# Altium schematic symbol library biblioteka_schematic.SchLib: 121 symbols
Pins are listed as number, name and electrical type; pins without a type are passive.

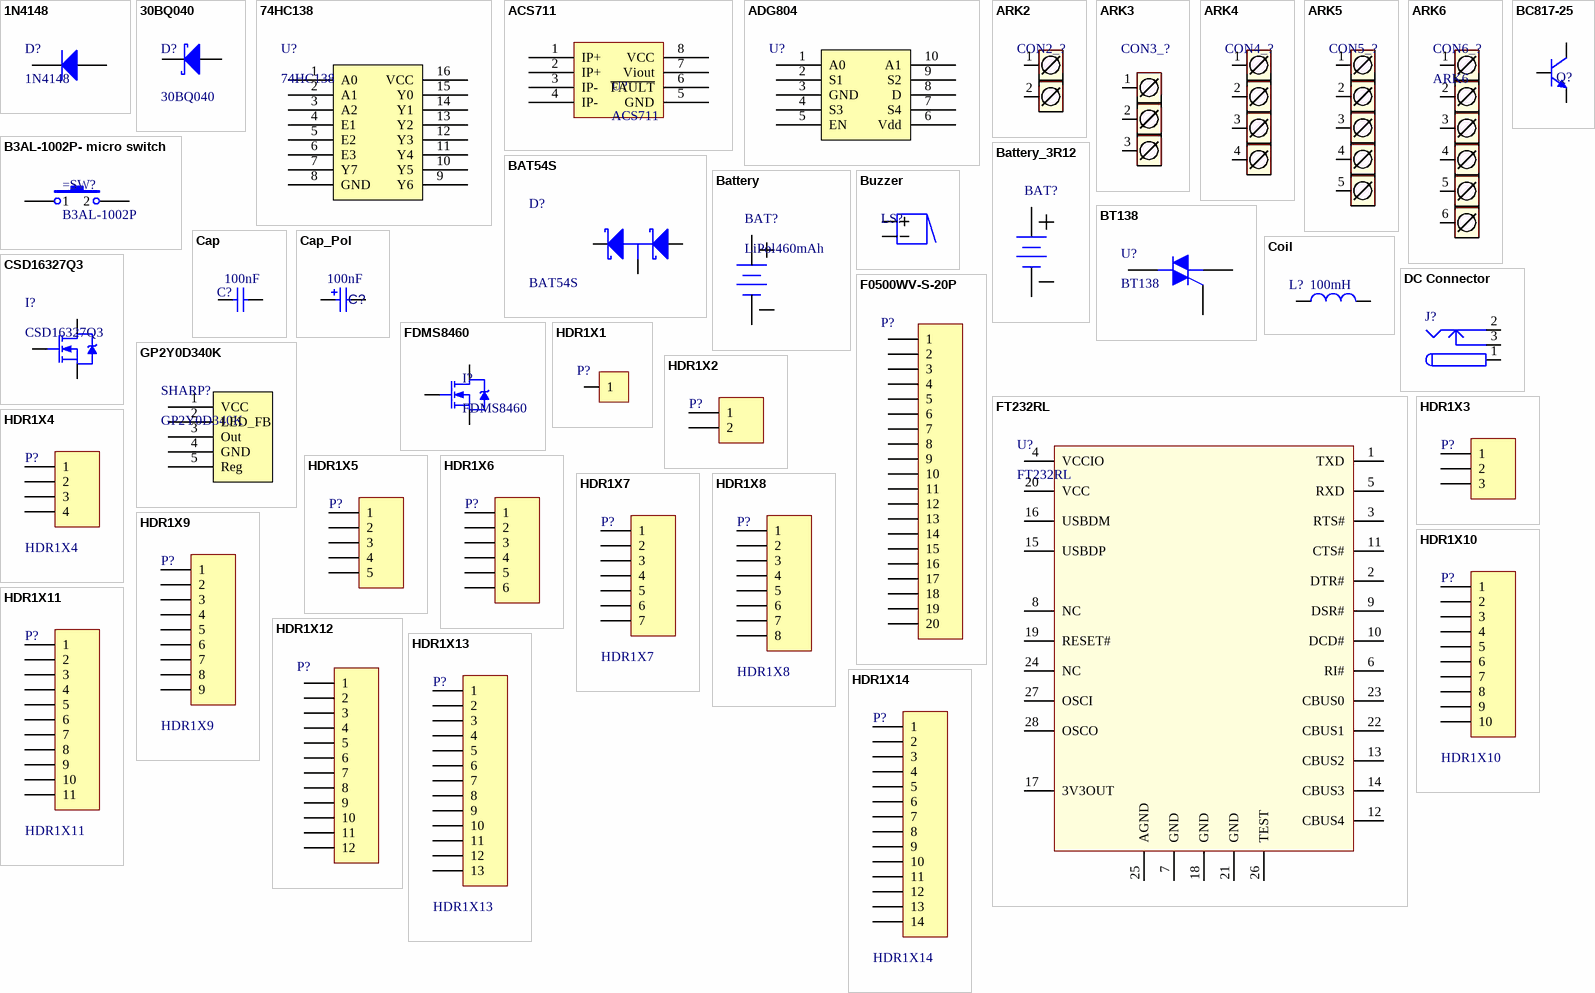
[diagram p0: symbols 1N4148 to HDR1X14]

## 1N4148
designator D?
High-speed diode
footprint 0805_DIODE
pins: 1 A, 2 K

## 30BQ040
designator D?
Schottky Rectifier; Published: 8-Jun-2000; LatestRevisionDate: 17-Jul-2002; LatestRevisionNote: Re-released for DXP Platform.; DatasheetDocument: PD-2.439; PackageReference: SMC; Publisher: Altium Limited; Code_JEDEC: DO-214-AB; ComponentLink1Description: Manufacturer Link; ComponentLink1URL: http://www.irf.com/; ComponentLink2Description: Datasheet; ComponentLink2URL: http://www.irf.com/product-info/datasheets/data/30bq040.pdf
footprint SMC (DO-214-AB/SMC; 2 C-Bend Leads; Body 7.9 x 5.9 mm, inc. leads (LxW))
pins: 1 A, 2 K

## 74HC138
designator U?
Demultiplexer 3 to 8
footprint SO16
pins: 1 A0, 2 A1, 3 A2, 4 E1, 5 E2, 6 E3, 7 Y7, 8 GND, 9 Y6, 10 Y5, 11 Y4, 12 Y3, 13 Y2, 14 Y1, 15 Y0, 16 VCC

## ACS711
designator U?
Current sensor. 12.5A or 25A at 3.3V
footprint SO-8_N
pins: 1 IP+, 2 IP+, 3 IP-, 4 IP-, 5 GND, 6 ~{FAULT}, 7 Viout, 8 VCC

## ADG804
designator U?  (value not drawn)
4Ch multiplexer
footprint MSOP RM-10
pins: 1 A0, 2 S1, 3 GND, 4 S3, 5 EN, 6 Vdd, 7 S4, 8 D, 9 S2, 10 A1

## ARK2
designator CON2_?  (value not drawn)
Złącze śrubowe 2 piny
footprint ARK2
footprint ARK 3.5 2-lines
footprint MC0000 - 2pin
pins: 1, 2

## ARK3
designator CON3_?  (value not drawn)
Złącze śrubowe 3 piny
footprint ARK3
pins: 1, 2, 3

## ARK4
designator CON4_?  (value not drawn)
Złącze śrubowe 4 piny
footprint ARK4
footprint ARK 3.5 4-lines
pins: 1, 2, 3, 4

## ARK5
designator CON5_?  (value not drawn)
Złącze śrubowe 5 pinów
footprint ARK5
pins: 1, 2, 3, 4, 5

## ARK6
designator CON6_?
Złącze śrubowe 6 pinów
footprint ARK6
pins: 1, 2, 3, 4, 5, 6

## B3AL-1002P- micro switch
designator =SW?, comment B3AL-1002P
footprint B3AL-1002P
pins: 1, 2

## BAT54S
designator D?
Schottky Barrier Double Diode; Published: 17-Sep-2003; LatestRevisionDate: 12-Dec-2006; LatestRevisionNote: IPC-7351 Footprint Added.; DatasheetVersion: 4-Mar-2002; PackageVersion: May-1999; PackageReference: SOT23; Publisher: Altium Limited; PackageDescription: 3-Pin SOT-23 Package 0.95 mm Pitch, 2.3 mm Lead Span; ComponentLink1Description: Manufacturer Link; ComponentLink1URL: http://www.semiconductors.philips.com/; ComponentLink2Description: Datasheet; ComponentLink2URL: http://www.semiconductors.philips.com/acrobat/datasheets/BAT54_SERIES_4.pdf
footprint SOT23_N
pins: 1 A, 2 K, 3 C

## Battery
designator BAT?, comment LiPol460mAh
footprint LiPol_460mAh

## Battery_3R12
designator BAT?, comment 3R12  (value not drawn)
3R12 Battery 4,5V with 2x2 Header
footprint Battery_3R12 (4,5V Battery model 3R12)
pins: 1 +, 2 -

## BC817-25
designator Q?  (value not drawn)
NPN General-purpose Transistor; Published: 17-Sep-2003; LatestRevisionDate: 12-Dec-2006; LatestRevisionNote: IPC-7351 Footprint Added.; DatasheetVersion: Jun-1999; PackageVersion: May-1999; PackageReference: SOT23; Publisher: Altium Limited; PackageDescription: 3-Pin SOT-23 Package 0.95 mm Pitch, 2.3 mm Lead Span; ComponentLink1Description: Manufacturer Link; ComponentLink1URL: http://www.semiconductors.philips.com/; ComponentLink2Description: Datasheet; ComponentLink2URL: http://www.semiconductors.philips.com/acrobat/datasheets/BC817_BC817W_BC337_5.pdf
footprint SOT23_N
pins: 1 B, 2 E, 3 C

## BT138
designator U?
BT138, 600V Triac
footprint TO-220AB (TO, Thru-Hole, Vertical, Heatsink Mounted; 3 In-Line Leads; Pitch 2.54 mm)
pins: 1 M1, 2 M2, 3 G

## Buzzer
designator LS?  (value not drawn)
Magnetic Transducer Buzzer; Published: 24-Mar-1999; LatestRevisionDate: 17-Dec-2003; LatestRevisionNote: Schematic revised, PCB Footprint replaced.; DatasheetVersion: 17-Dec-2003; PackageReference: ABSM-1574; Publisher: Altium Limited; ComponentLink1Description: Manufacturer Link; ComponentLink1URL: http://www.megastar.com/linecard/buzzmode/index.php
footprint HCM1212X (Buzzer)
pins: 1, 2

## Cap
designator C?  value 100nF
Ceramic capacitor; Unit Price1: *; Unit Price2: *
footprint 0805_CAP
footprint 0603_CAP
footprint 1210_CAP
pins: 1, 2

## Cap_Pol
designator C?, comment 100nF
Polar capacitor; Value: 100nF
footprint Con_SMD_4x5 (SMD electrolytic capacitor)
footprint Con_SMD_5x5.5 (SMD electrolytic capacitor)
footprint Con_SMD_6.3x5.5 (SMD electrolytical capacitor)
footprint Con_SMD_8x10_5 (Base 8,2mm height 10mm, 220uF, 35V AD6)
footprint Cap_THT_5x11
footprint Cap_THT_6x11
footprint Cap_THT_10x20
footprint EIA 7343-31
footprint Cap SMD Multipurpose (Created for multi footprint capacitors)
footprint CAP_THT_8x7
pins: 1, 2
2 alternate drawings of the same symbol

## Coil
designator L?, comment 100mH
Coil for ADC filtering; Value: 100mH
footprint 0805 ((2012 metric))
footprint 0603
footprint THT_AXIAL (General THT AXIAL element)
footprint 1206 (3216(metric))
pins: 1, 2

## CSD16327Q3
designator I?
N-Channel NexFET Power MOSFET
footprint Q3
pins: D DRAIN, G GATE, S SOURCE

## DC Connector
designator J?  (value not drawn)
Low Voltage Power Supply Connector
footprint DC Connector (www.lumberd.com Designator: 1613 18)
pins: 1 (power), 2 (power), 3 (power)

## F0500WV-S-20P
designator P?  (value not drawn)
footprint F0500WV-S-20P (Złącze FFC 20 pin)
pins: 1, 2, 3, 4, 5, 6, 7, 8, 9, 10, 11, 12, 13, 14, 15, 16, 17, 18, 19, 20

## FDMS8460
designator I?
N-Channel Power Trench® MOSFET  40V, 49A, 2.2m:
footprint Power 56
pins: D DRAIN, G GATE, S SOURCE

## FT232RL
designator U?
9.62500000000
footprint SSOP-28 (SOP, 28-Leads, Body 10,5x5,6mm (max), Pitch 0,65mm)
pins: 1 TXD, 2 DTR#, 3 RTS#, 4 VCCIO, 5 RXD, 6 RI#, 7 GND, 8 NC, 9 DSR#, 10 DCD#, 11 CTS#, 12 CBUS4, 13 CBUS2, 14 CBUS3, 15 USBDP, 16 USBDM, 17 3V3OUT, 18 GND, 19 RESET#, 20 VCC, 21 GND, 22 CBUS1, 23 CBUS0, 24 NC, 25 AGND, 26 TEST, 27 OSCI, 28 OSCO

## GP2Y0D340K
designator SHARP?
40cm proximity sensor
footprint GP2Y0D340K
pins: 1 VCC, 2 LED_FB, 3 Out, 4 GND, 5 Reg

## HDR1X1
designator P?  (value not drawn)
Header, 1-Pin
footprint HDR1X1 (Header, 1-Pin)
pins: 1

## HDR1X2
designator P?  (value not drawn)
Header, 2-Pin; LatestRevisionDate: 17-Jul-2002; LatestRevisionNote: Re-released for DXP Platform.; Publisher: Altium Limited
footprint HDR1X2 (Connector; Header; 2 Position)
footprint PicoBlade SMD Angle 2 Circuits
footprint PicoBlade SMD Horizontal 2 Circuits
footprint Molex SPOX Angle 2 Circuits
footprint Molex SPOX Horizontal 2 Circuits
footprint MOLEX KK HORIZONTAL 2PIN (Connector; Header; 2 Position)
pins: 1, 2

## HDR1X3
designator P?  (value not drawn)
Header, 3-Pin; LatestRevisionDate: 17-Jul-2002; LatestRevisionNote: Re-released for DXP Platform.; Publisher: Altium Limited
footprint HDR1X3 (Connector; Header; 3 Position)
footprint PicoBlade SMD Angle 3 Circuits
footprint PicoBlade SMD Horizontal 3 Circuits
footprint Molex SPOX Angle 3 Circuits
footprint Molex SPOX Horizontal 3 Circuits
footprint PicoBlade THTAngle 3 Circuits
footprint PicoBlade THT Horizontal 3 Circuits
footprint MOLEX KK HORIZONTAL 3PIN (Connector; Header; 3 Position)
pins: 1, 2, 3

## HDR1X4
designator P?
Header, 4-Pin; LatestRevisionDate: 17-Jul-2002; LatestRevisionNote: Re-released for DXP Platform.; Publisher: Altium Limited
footprint HDR1X4 (Connector; Header; 4 Position)
footprint PicoBlade SMD Angle 4 Circuits
footprint PicoBlade SMD Horizontal 4 Circuits
footprint PicoBlade THTHorizontal 4 Circuits
footprint PicoBlade THTAngle 4 Circuits
footprint Molex SPOX Angle 4 Circuits
footprint Molex SPOX Horizontal 4 Circuits
pins: 1, 2, 3, 4

## HDR1X5
designator P?  (value not drawn)
Header, 5-Pin; LatestRevisionDate: 17-Jul-2002; LatestRevisionNote: Re-released for DXP Platform.; Publisher: Altium Limited
footprint HDR1X5 (Connector; Header; 5 Position)
footprint Molex SPOX Angle 5 Circuits
footprint Molex SPOX Horizontal 5 Circuits
pins: 1, 2, 3, 4, 5

## HDR1X6
designator P?  (value not drawn)
Header, 6-Pin; LatestRevisionDate: 17-Jul-2002; LatestRevisionNote: Re-released for DXP Platform.; Publisher: Altium Limited
footprint HDR1X6 (Connector; Header; 6 Position)
footprint PicoBlade SMD Horizontal6 Circuits
footprint PicoBlade SMD Angle 6 Circuits
footprint PicoBlade THTHorizontal 6 Circuits
footprint PicoBlade THTAngle 6 Circuits
footprint Molex SPOX Angle 6 Circuits
footprint Molex SPOX Horizontal 6 Circuits
pins: 1, 2, 3, 4, 5, 6

## HDR1X7
designator P?
Header, 7-Pin; LatestRevisionDate: 17-Jul-2002; LatestRevisionNote: Re-released for DXP Platform.; Publisher: Altium Limited
footprint HDR1X7 (Connector; Header; 7 Position)
pins: 1, 2, 3, 4, 5, 6, 7

## HDR1X8
designator P?
Header, 8-Pin; LatestRevisionDate: 17-Jul-2002; LatestRevisionNote: Re-released for DXP Platform.; Publisher: Altium Limited
footprint HDR1X8 (Connector; Header; 8 Position)
footprint PicoBlade SMD Angle 8 Circuits
footprint PicoBlade SMD Horizontal8 Circuits
footprint PicoBlade THT Angle 8 Circuits
footprint PicoBlade THT Horizontal 8 Circuits
pins: 1, 2, 3, 4, 5, 6, 7, 8

## HDR1X9
designator P?
Header, 9-Pin; LatestRevisionDate: 17-Jul-2002; LatestRevisionNote: Re-released for DXP Platform.; Publisher: Altium Limited
footprint HDR1X9 (Connector; Header; 9 Position)
pins: 1, 2, 3, 4, 5, 6, 7, 8, 9

## HDR1X10
designator P?
Header, 10-Pin; LatestRevisionDate: 17-Jul-2002; LatestRevisionNote: Re-released for DXP Platform.; Publisher: Altium Limited
footprint HDR1X10 (Connector; Header; 10 Position)
footprint PicoBlade THT Angle 10 Circuits
footprint PicoBlade THT Horizontal 10 Circuits
pins: 1, 2, 3, 4, 5, 6, 7, 8, 9, 10

## HDR1X11
designator P?
Header, 11-Pin; LatestRevisionDate: 17-Jul-2002; LatestRevisionNote: Re-released for DXP Platform.; Publisher: Altium Limited
footprint HDR1X11 (Connector; Header; 11 Position)
pins: 1, 2, 3, 4, 5, 6, 7, 8, 9, 10, 11

## HDR1X12
designator P?  (value not drawn)
Header, 12-Pin
footprint HDR1X12 (Connector; Header; 12 Position)
pins: 1, 2, 3, 4, 5, 6, 7, 8, 9, 10, 11, 12

## HDR1X13
designator P?
Header, 13-Pin; LatestRevisionDate: 17-Jul-2002; LatestRevisionNote: Re-released for DXP Platform.; Publisher: Altium Limited
footprint HDR1X13 (Connector; Header; 13 Position)
pins: 1, 2, 3, 4, 5, 6, 7, 8, 9, 10, 11, 12, 13

## HDR1X14
designator P?
Header, 14-Pin; LatestRevisionDate: 17-Jul-2002; LatestRevisionNote: Re-released for DXP Platform.; Publisher: Altium Limited
footprint HDR1X14 (Connector; Header; 14 Position)
pins: 1, 2, 3, 4, 5, 6, 7, 8, 9, 10, 11, 12, 13, 14

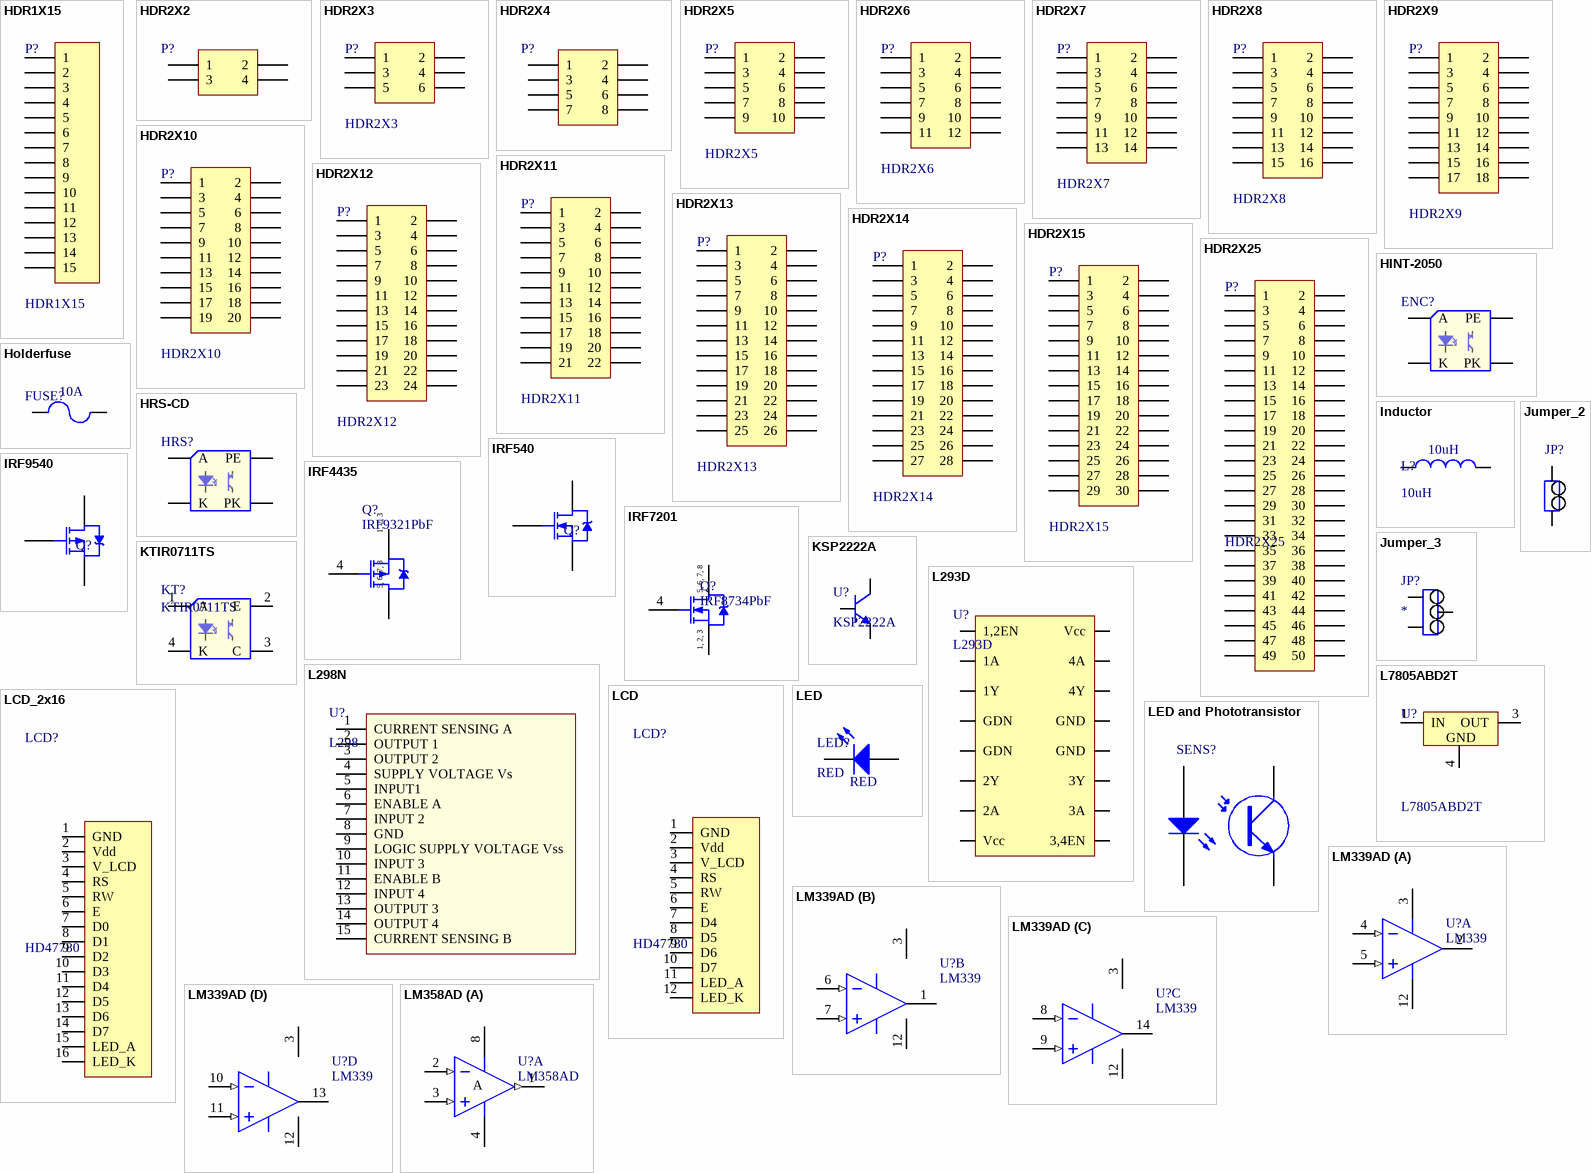
[diagram p1: symbols HDR1X15 to LM358AD]

## HDR1X15
designator P?
Header, 15-Pin; LatestRevisionDate: 17-Jul-2002; LatestRevisionNote: Re-released for DXP Platform.; Publisher: Altium Limited
footprint HDR1X15 (Connector; Header; 15 Position)
pins: 1, 2, 3, 4, 5, 6, 7, 8, 9, 10, 11, 12, 13, 14, 15

## HDR2X2
designator P?  (value not drawn)
Header, 2-Pin, Dual row
footprint HDR2X2 (Connector; Header; 2X2 Position)
pins: 1, 2, 3, 4

## HDR2X3
designator P?
Header, 3-Pin, Dual row; LatestRevisionDate: 17-Jul-2002; LatestRevisionNote: Re-released for DXP Platform.; Publisher: Altium Limited
footprint HDR2X3 (Connector; Header; 3x2 Position)
pins: 1, 2, 3, 4, 5, 6

## HDR2X4
designator P?  (value not drawn)
Header, 4-Pin, Dual Row
footprint HDR2X4 (Connector; Header; 2X4 Position)
pins: 1, 2, 3, 4, 5, 6, 7, 8

## HDR2X5
designator P?
Header, 5-Pin, Dual row; LatestRevisionDate: 17-Jul-2002; LatestRevisionNote: Re-released for DXP Platform.; Publisher: Altium Limited
footprint HDR2X5 (Connector; Header; 5x2 Position)
pins: 1, 2, 3, 4, 5, 6, 7, 8, 9, 10

## HDR2X6
designator P?
Header, 6-Pin, Dual row; LatestRevisionDate: 17-Jul-2002; LatestRevisionNote: Re-released for DXP Platform.; Publisher: Altium Limited
footprint HDR2X6 (Connector; Header; 6x2 Position)
pins: 1, 2, 3, 4, 5, 6, 7, 8, 9, 10, 11, 12

## HDR2X7
designator P?
Header, 7-Pin, Dual row; LatestRevisionDate: 17-Jul-2002; LatestRevisionNote: Re-released for DXP Platform.; Publisher: Altium Limited
footprint HDR2X7 (Connector; Header; 7x2 Position)
pins: 1, 2, 3, 4, 5, 6, 7, 8, 9, 10, 11, 12, 13, 14

## HDR2X8
designator P?
Header, 8-Pin, Dual row; LatestRevisionDate: 17-Jul-2002; LatestRevisionNote: Re-released for DXP Platform.; Publisher: Altium Limited
footprint HDR2X8 (Connector; Header; 8x2 Position)
pins: 1, 2, 3, 4, 5, 6, 7, 8, 9, 10, 11, 12, 13, 14, 15, 16

## HDR2X9
designator P?
Header, 9-Pin, Dual row; LatestRevisionDate: 17-Jul-2002; LatestRevisionNote: Re-released for DXP Platform.; Publisher: Altium Limited
footprint HDR2X9 (Connector; Header; 9x2 Position)
pins: 1, 2, 3, 4, 5, 6, 7, 8, 9, 10, 11, 12, 13, 14, 15, 16, 17, 18

## HDR2X10
designator P?
Header, 10-Pin, Dual row; LatestRevisionDate: 17-Jul-2002; LatestRevisionNote: Re-released for DXP Platform.; Publisher: Altium Limited
footprint HDR2X10 (Connector; Header; 10x2 Position)
pins: 1, 2, 3, 4, 5, 6, 7, 8, 9, 10, 11, 12, 13, 14, 15, 16, 17, 18, 19, 20

## HDR2X11
designator P?
Header, 11-Pin, Dual row; LatestRevisionDate: 17-Jul-2002; LatestRevisionNote: Re-released for DXP Platform.; Publisher: Altium Limited
footprint HDR2X11 (Connector; Header; 11x2 Position)
pins: 1, 2, 3, 4, 5, 6, 7, 8, 9, 10, 11, 12, 13, 14, 15, 16, 17, 18, 19, 20, 21, 22

## HDR2X12
designator P?
Header, 12-Pin, Dual row; LatestRevisionDate: 17-Jul-2002; LatestRevisionNote: Re-released for DXP Platform.; Publisher: Altium Limited
footprint HDR2X12 (Connector; Header; 12x2 Position)
pins: 1, 2, 3, 4, 5, 6, 7, 8, 9, 10, 11, 12, 13, 14, 15, 16, 17, 18, 19, 20, 21, 22, 23, 24

## HDR2X13
designator P?
Header, 13-Pin, Dual row; LatestRevisionDate: 17-Jul-2002; LatestRevisionNote: Re-released for DXP Platform.; Publisher: Altium Limited
footprint HDR2X13 (Connector; Header; 13x2 Position)
pins: 1, 2, 3, 4, 5, 6, 7, 8, 9, 10, 11, 12, 13, 14, 15, 16, 17, 18, 19, 20, 21, 22, 23, 24, 25, 26

## HDR2X14
designator P?
Header, 14-Pin, Dual row; LatestRevisionDate: 17-Jul-2002; LatestRevisionNote: Re-released for DXP Platform.; Publisher: Altium Limited
footprint HDR2X14 (Connector; Header; 14x2 Position)
pins: 1, 2, 3, 4, 5, 6, 7, 8, 9, 10, 11, 12, 13, 14, 15, 16, 17, 18, 19, 20, 21, 22, 23, 24, 25, 26, 27, 28

## HDR2X15
designator P?
Header, 15-Pin, Dual row; LatestRevisionDate: 17-Jul-2002; LatestRevisionNote: Re-released for DXP Platform.; Publisher: Altium Limited
footprint HDR2X15 (Connector; Header; 15x2 Position)
pins: 1, 2, 3, 4, 5, 6, 7, 8, 9, 10, 11, 12, 13, 14, 15, 16, 17, 18, 19, 20, 21, 22, 23, 24, 25, 26, 27, 28, 29, 30

## HDR2X25
designator P?
Header, 25-Pin, Dual row; LatestRevisionDate: 17-Jul-2002; LatestRevisionNote: Re-released for DXP Platform.; Publisher: Altium Limited
footprint HDR2X25 (Connector; Header; 25x2 Position)
pins: 1, 2, 3, 4, 5, 6, 7, 8, 9, 10, 11, 12, 13, 14, 15, 16, 17, 18, 19, 20, 21, 22, 23, 24, 25, 26, 27, 28, 29, 30, 31, 32, 33, 34, 35, 36, 37, 38, 39, 40, 41, 42, 43, 44, 45, 46, 47, 48, 49, 50

## HINT-2050
designator ENC?  (value not drawn)
Digital encoder
footprint HINT-2050
footprint HINT-2050 - half size
pins: 1 K "Cathode", 2 A "Anode", 3 PK "Collector", 4 PE "Emiter"

## Holderfuse
designator FUSE?, comment 10A
Fuseholder Open Design, 5 x 20 mm; Value: 10A
footprint Holderfuse (8x20mm fuse holder)
pins: 1, 2

## HRS-CD
designator HRS?  (value not drawn)
HRS CD Encoder
footprint HRS CD (Sensor for encoder)
pins: 1 A "Anode", 2 PE "Emiter", 3 PK "Collector", 4 K "Cathode"

## Inductor
designator L?, comment 10uH
DO5040H-103; Code_IEC: 1005; Published: 8-Jun-2000; LatestRevisionDate: 29-May-2009; LatestRevisionNote: IPC-7351 Footprint Added.; PackageReference: 0402-A; Publisher: Altium Limited; PackageDescription: Chip Inductor; Code_JEITA: 0402; Value: 10uH
footprint DO5040
footprint Coilcraft (Multipurpose footprint for Coilcraft inductors)
footprint LPS4018
pins: 1, 2

## IRF540
designator Q?
HEXFET N-Channel Power MOSFET; Note: Pin 2 is electrically connected to pin 4.; Published: 8-Jun-2000; LatestRevisionDate: 17-Jul-2002; LatestRevisionNote: Re-released for DXP Platform.; DatasheetVersion: PD-9.373H; PackageVersion: Feb-1997; PackageReference: TO-220AB; Publisher: Altium Limited; PackageDescription: TO, Thru-Hole, Vertical, Heatsink Mounted; 3 In-Line Leads; Pitch 2.54 mm; ComponentLink1Description: Manufacturer Link; ComponentLink1URL: http://www.irf.com/
footprint TO-220AB (TO, Thru-Hole, Vertical, Heatsink Mounted; 3 In-Line Leads; Pitch 2.54 mm)
pins: 1 G, 2 D, 3 S

## IRF4435
designator Q?, comment IRF9321PbF
HEXFET Power MOSFET; Published: 17-Sep-2003; LatestRevisionDate: 13-Apr-2006; LatestRevisionNote: IPC-7351 Footprint Added.; DatasheetVersion: 12-Jun-2001; PackageVersion: Feb-2001; PackageReference: SO-8; Publisher: Altium Limited; PackageDescription: 8-Pin Plastic Small Outline Integrated Circuit 1.27 mm Pitch; Code_JEDEC: MS-012-AA; Code_IPC: SOIC127P600-8; ComponentLink1Description: Manufacturer Link; ComponentLink1URL: http://www.irf.com/; ComponentLink2Description: Datasheet; ComponentLink2URL: http://www.irf.com/product-info/datasheets/data/IRF4435.pdf
footprint SO-8_N
pins: 1 S, 2 S, 3 S, 4 G, 5 D, 6 D, 7 D, 8 D
text: 1, 2, 3; 5, 6, 7, 8

## IRF7201
designator Q?, comment IRF8734PbF
HEXFET Power MOSFET; Published: 8-Jun-2000; LatestRevisionDate: 13-Apr-2006; LatestRevisionNote: IPC-7351 Footprint Added.; DatasheetVersion: Sep-1998; PackageVersion: Feb-2001; PackageReference: SO-8; Publisher: Altium Limited; PackageDescription: 8-Pin Plastic Small Outline Integrated Circuit 1.27 mm Pitch; Code_JEDEC: MS-012-AA; Code_IPC: SOIC127P600-8; ComponentLink1Description: Manufacturer Link; ComponentLink1URL: http://www.irf.com/; ComponentLink2Description: Datasheet; ComponentLink2URL: http://www.irf.com/product-info/datasheets/data/irf7201.pdf
footprint SO-8_N
pins: 1 S, 2 S, 3 S, 4 G, 5 D, 6 D, 7 D, 8 D
text: 5, 6, 7, 8; 1, 2, 3

## IRF9540
designator Q?
HEXFET P-Channel Power MOSFET; Note: Pin 2 is electrically connected to pin 4.; Published: 8-Jun-2000; LatestRevisionDate: 17-Jul-2002; LatestRevisionNote: Re-released for DXP Platform.; DatasheetVersion: PD-9.421C; PackageVersion: Feb-1997; PackageReference: TO-220AB; Publisher: Altium Limited; PackageDescription: TO, Thru-Hole, Vertical, Heatsink Mounted; 3 In-Line Leads; Pitch 2.54 mm; ComponentLink1Description: Manufacturer Link; ComponentLink1URL: http://www.irf.com/; ComponentLink2Description: Datasheet; ComponentLink2URL: http://www.irf.com/product-info/datasheets/data/irf9540.pdf
footprint TO-220AB (TO, Thru-Hole, Vertical, Heatsink Mounted; 3 In-Line Leads; Pitch 2.54 mm)
pins: 1 G, 2 D, 3 S

## Jumper_2
designator JP?, comment Jumper  (value not drawn)
Jumper, 2-Pin
footprint HDR1X2 (Connector; Header; 2 Position)
pins: 1, 2

## Jumper_3
designator JP?
Jumper, 3-Pin
footprint HDR1X3 (Connector; Header; 3 Position)
pins: 1, 2, 3

## KSP2222A
designator U?
NPN General Purpose Amplifier
footprint TO-92
pins: 1 E, 2 B, 3 C

## KTIR0711TS
designator KT?
footprint KTIR0711S
pins: 1 A "Anode", 2 E "Emiter", 3 C "Collector", 4 K "Cathode"

## L293D
designator U?
Push-Pull Four Channel Driver With Diode
footprint DIP16
pins: 1 1,2EN, 2 1A, 3 1Y, 4 GDN, 5 GDN, 6 2Y, 7 2A, 8 Vcc, 9 3,4EN, 10 3A, 11 3Y, 12 GND, 13 GND, 14 4Y, 15 4A, 16 Vcc

## L298N
designator U?, comment L298
DUAL FULL-BRIDGE DRIVER
footprint Multiwatt15 (Miltiwatt15, 15-leads package)
pins: 1 CURRENT SENSING A, 2 OUTPUT 1, 3 OUTPUT 2, 4 SUPPLY VOLTAGE Vs, 5 INPUT1, 6 ENABLE A, 7 INPUT 2, 8 GND, 9 LOGIC SUPPLY VOLTAGE Vss, 10 INPUT 3, 11 ENABLE B, 12 INPUT 4, 13 OUTPUT 3, 14 OUTPUT 4, 15 CURRENT SENSING B

## L7805ABD2T
designator U?
Precision 1A Regulator; Published: 24-Aug-2001; LatestRevisionDate: 17-Jul-2002; LatestRevisionNote: Re-released for DXP Platform.; DatasheetVersion: Nov-1999; PackageReference: TO-263; Publisher: Altium Limited; PackageDescription: D2-PAK/TO-263-AB; 3 Leads (1 Cropped); Body 15.9 (inc. leads) x 10.4 mm (LxW max); ComponentLink1Description: Manufacturer Link; ComponentLink1URL: http://www.st.com/; ComponentLink2Description: Datasheet; ComponentLink2URL: http://www.st.com/stonline/products/literature/ds/2144/l7805ab.pdf
footprint TO-263 (D2-PAK/TO-263-AB; 3 Leads (1 Cropped); Body 15.9 (inc. leads) x 10.4 mm (LxW max))
footprint TO-220AB_stabilizer (TO, Thru-Hole, Vertical, Heatsink Mounted; 3 In-Line Leads; Pitch 2.54 mm)
pins: 1 IN (power), 3 OUT (power), 4 GND (power)

## LCD
designator LCD?, comment HD47780
Header for HD47780
footprint HDR1X12 (Connector; Header; 12 Position)
pins: 1 GND, 2 Vdd, 3 V_LCD, 4 RS, 5 RW, 6 E, 7 D4, 8 D5, 9 D6, 10 D7, 11 LED_A, 12 LED_K

## LCD_2x16
designator LCD?, comment HD47780
Header for HD47780
footprint LCD 2x16
pins: 1 GND, 2 Vdd, 3 V_LCD, 4 RS, 5 RW, 6 E, 7 D0, 8 D1, 9 D2, 10 D3, 11 D4, 12 D5, 13 D6, 14 D7, 15 LED_A, 16 LED_K

## LED
designator LED?, comment RED
Light-emitting diode; COLOR: RED
footprint 0805_DIODE
footprint LED_THT_RED
footprint LED_THT_BLUE
footprint LED_THT_GREEN
footprint LED_THT_YELLOW
footprint LED_THT_3mm
footprint 0603
pins: 1 A, 2 K

## LED and Phototransistor
designator SENS?, comment Opto_Pair  (value not drawn)
LED and Phototransistor
footprint LED and Phototransistor
pins: 1 FA, 2 FK, 3 PK, 4 PE

## LM339AD
designator U?, comment LM339
Quad Single-Supply Comparator; Published: 17-Jul-2002; LatestRevisionDate: 13-Apr-2006; LatestRevisionNote: IPC-7351 Footprint Added.; DatasheetVersion: 1988; PackageVersion: 1991; PackageReference: 751A-02; Publisher: Altium Limited; PackageDescription: 14-Pin Small Outline Integrated Circuit 1.27 mm Pitch; Code_IPC: SOIC127P600-14; ComponentLink1Description: Manufacturer Link; ComponentLink1URL: http://www.onsemi.com/site/products/taxonomy/0,4438,133,00.html
footprint SOIC14 (SOIC, 14-Leads, Body 8.6x3.9mm, Pitch 1.27mm, IPC Medium Density)
pins on every part: 3 V+ (power), 12 GND (power)
part A pins: 2 OUT (oc), 4 IN- (in), 5 IN+ (in)
part B pins: 1 OUT (oc), 6 IN- (in), 7 IN+ (in)
part C pins: 8 IN- (in), 9 IN+ (in), 14 OUT (oc)
part D pins: 10 IN- (in), 11 IN+ (in), 13 OUT (oc)

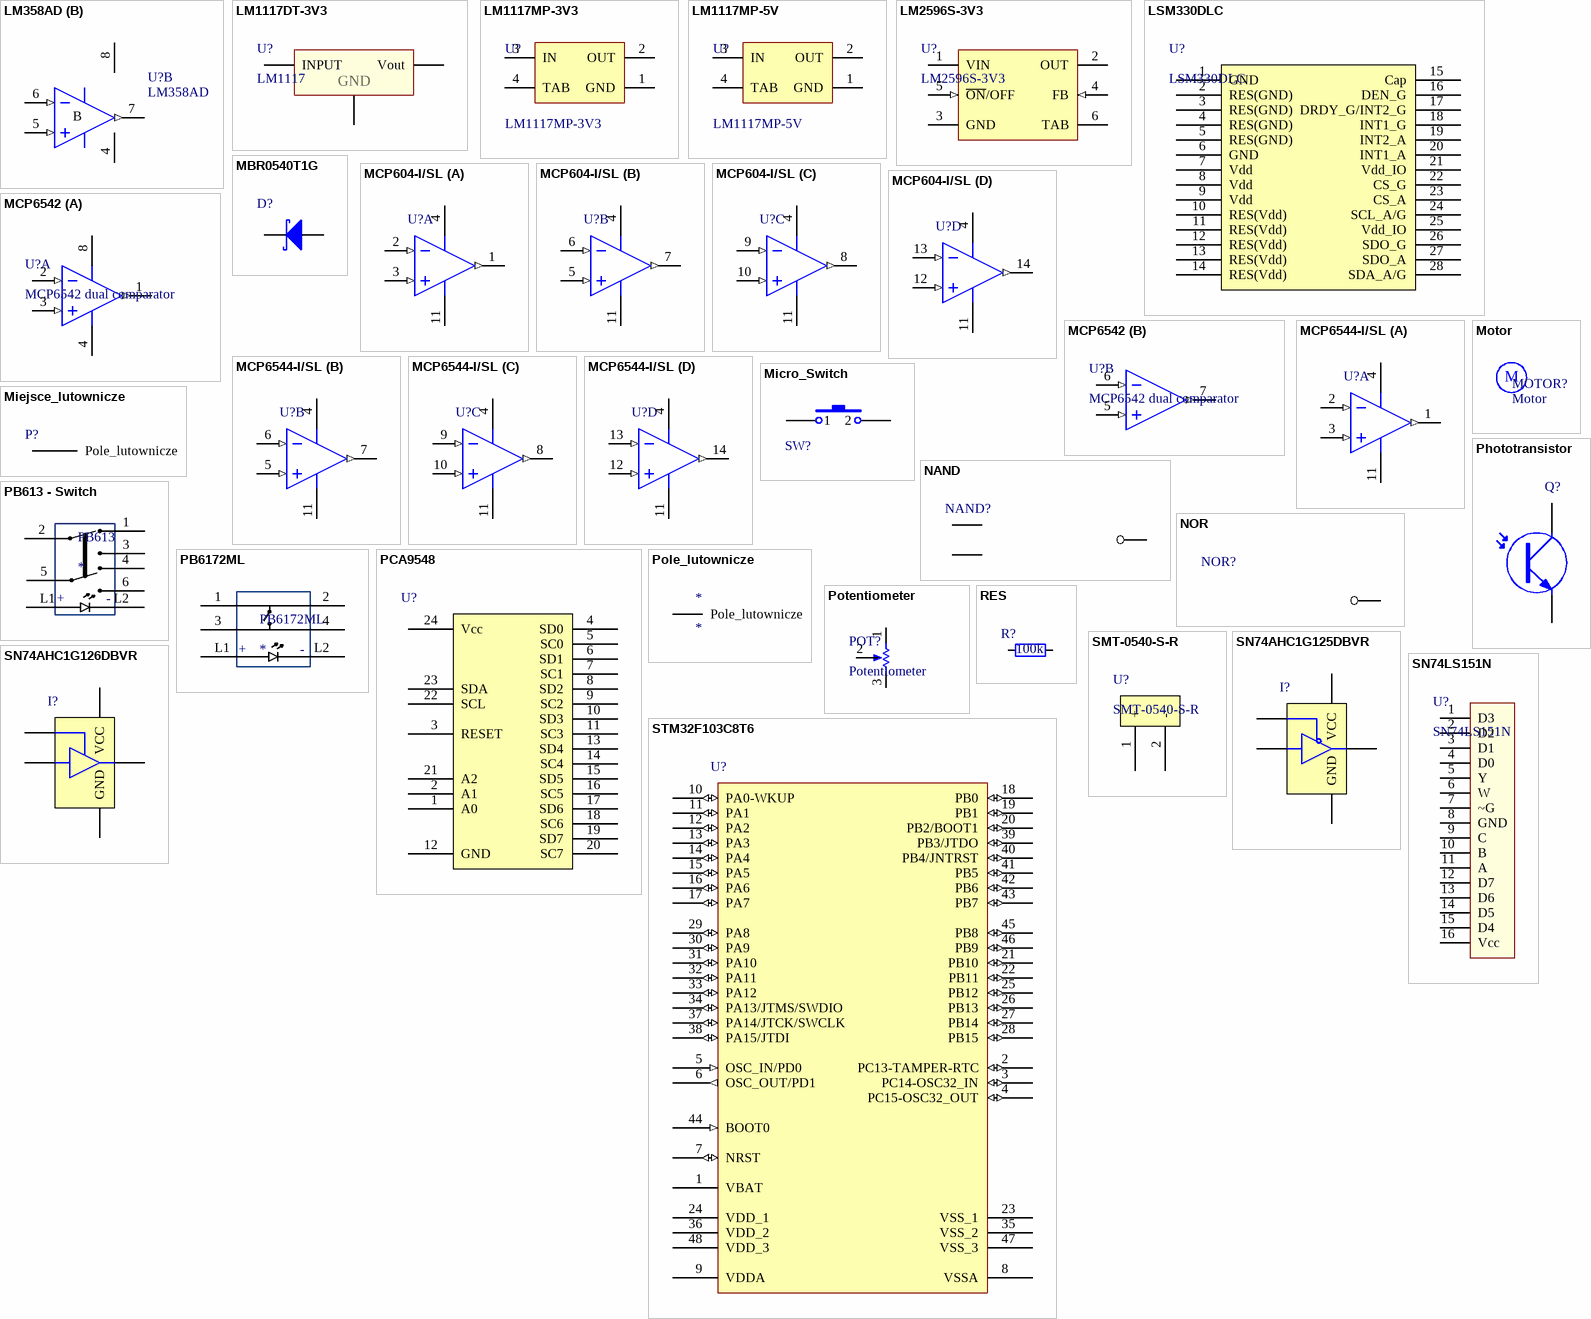
[diagram p2: symbols LM358AD to STM32F103C8T6]

## LM358AD
designator U?
Low-Power Dual Operational Amplifier; Published: 24-Aug-2001; LatestRevisionDate: 13-Apr-2006; LatestRevisionNote: IPC-7351 Footprint Added.; DatasheetVersion: Jun-1998; PackageVersion: Dec-2002; PackageReference: SO8; Publisher: Altium Limited; PackageDescription: 8-Pin Small Outline Integrated Circuit 1.27 mm Pitch; Code_JEDEC: MS-012-AA; Code_IPC: SOIC127P600-8; ComponentLink1Description: Manufacturer Link; ComponentLink1URL: http://www.st.com/; ComponentLink2Description: Datasheet; ComponentLink2URL: http://www.st.com/stonline/products/literature/ds/2163/lm358.pdf
footprint DIP8
footprint SO-8_N
pins on every part: 4 V- (power), 8 V+ (power)
part A pins: 1 OUT (out), 2 IN- (in), 3 IN+ (in)
part B pins: 5 IN+ (in), 6 IN- (in), 7 OUT (out)
part A text: A
part B text: B

## LM1117DT-3V3
designator U?, comment LM1117
LM1117, 3V3, 800mA LDI
footprint TO252 (D-PAK, 3-Pads, Body 5,8x6,7mm (max), IPC Low Density)
pins: 1 GND, 3 INPUT, 4 Vout

## LM1117MP-3V3
designator U?
800mA Low-Dropout Linear Regulator; PartNumber: LM1117MP-3.3; Manufacturer: National Semiconductor; CompType: LDO IC; PackageTopMarking: XYTT*N05A; PowerWise: N; Published: 4-Dec-2008; DatasheetVersion: Apr-2006; PackageVersion: revB, Apr-2003; PackageReference: MP04A; Publisher: Altium Limited; PackageDescription: Molded SOT-223, 6.50 x 3.56 x 1.6mm Body, 4 Lead, 2.3mm Pitch; RoHS: O; PinCount: 4; DigiKeyPartNumber: LM1117MP-3.3CT-ND; Code_JEDEC: TO-261-AA; Code_IPC: SOT223-4; ComponentLink1Description: LM1117 Datasheet; ComponentLink1URL: http://www.national.com/ds/LM/LM1117.pdf; ComponentLink2Description: LM1117 Web Page; ComponentLink2URL: http://www.national.com/pf/LM/LM1117.html; ComponentLink3Description: MP04A Package Page; ComponentLink3URL: http://www.national.com/packaging/folders/mp04a.html
footprint SOT223
pins: 1 GND (power), 2 OUT (power), 3 IN (power), 4 TAB (power)

## LM1117MP-5V
designator U?
800mA Low-Dropout Linear Regulator; PartNumber: LM1117MP-3.3; Manufacturer: National Semiconductor; CompType: LDO IC; PackageTopMarking: XYTT*N05A; PowerWise: N; Published: 4-Dec-2008; DatasheetVersion: Apr-2006; PackageVersion: revB, Apr-2003; PackageReference: MP04A; Publisher: Altium Limited; PackageDescription: Molded SOT-223, 6.50 x 3.56 x 1.6mm Body, 4 Lead, 2.3mm Pitch; RoHS: O; PinCount: 4; DigiKeyPartNumber: LM1117MP-5.0CT-ND; Code_JEDEC: TO-261-AA; Code_IPC: SOT223-4; ComponentLink1Description: LM1117 Datasheet; ComponentLink1URL: http://www.national.com/ds/LM/LM1117.pdf; ComponentLink2Description: LM1117 Web Page; ComponentLink2URL: http://www.national.com/pf/LM/LM1117.html; ComponentLink3Description: MP04A Package Page; ComponentLink3URL: http://www.national.com/packaging/folders/mp04a.html
footprint SOT223
pins: 1 GND (power), 2 OUT (power), 3 IN (power), 4 TAB (power)

## LM2596S-3V3
designator U?
SIMPLE SWITCHER Power Converter 150 KHz 3A Step-Down Voltage Regulator; PartNumber: LM2596S-3.3; Manufacturer: National Semiconductor; PackageTopMarking: NSUZXYTT*LM2596S*-3.3 P+; PowerWise: N; FirstPublished: 4-Dec-2008; DatasheetVersion: May-2002; PackageVersion: revD, Apr-2005; PackageReference: TS5B; Publisher: Altium Limited; PackageDescription: TO-263, Molded, .400 x .390 x .180in, 5 Lead, .067in Pitch, Surface Mount; CompType: Switcher; RoHS: O; PinCount: 5; DigiKeyPartNumber: LM2596S-3.3-ND; Code_JEDEC: MO-169-AB; ComponentLink1Description: LM2596 Datasheet; ComponentLink1URL: http://www.national.com/ds/LM/LM2596.pdf; ComponentLink2Description: LM2596 Web Page; ComponentLink2URL: http://www.national.com/pf/LM/LM2596.html; ComponentLink3Description: TS5B Package Page; ComponentLink3URL: http://www.national.com/packaging/folders/ts5b.html
footprint TS5B_N (D2-PAK, 6-Leads, Body 8.6x10.2mm, Pitch 1.7mm, Lead Span 14.1mm, IPC Medium Density)
pins: 1 VIN (power), 2 OUT (power), 3 GND (power), 4 FB (in), 5 ~{ON}/OFF (in), 6 TAB (power)

## LSM330DLC
designator U?
3D Axis Gyro and Accel
footprint LGA28
pins: 1 GND, 2 RES(GND), 3 RES(GND), 4 RES(GND), 5 RES(GND), 6 GND, 7 Vdd, 8 Vdd, 9 Vdd, 10 RES(Vdd), 11 RES(Vdd), 12 RES(Vdd), 13 RES(Vdd), 14 RES(Vdd), 15 Cap, 16 DEN_G, 17 DRDY_G/INT2_G, 18 INT1_G, 19 INT2_A, 20 INT1_A, 21 Vdd_IO, 22 CS_G, 23 CS_A, 24 SCL_A/G, 25 Vdd_IO, 26 SDO_G, 27 SDO_A, 28 SDA_A/G

## MBR0540T1G
designator D?, comment Schottky Power Rectifier  (value not drawn)
footprint SOD-123
pins: A, K

## MCP604-I/SL
designator U?
2.7V to 6.0V Single Supply CMOS Op Amp
footprint SOIC14 (SOIC, 14-Leads, Body 8.6x3.9mm, Pitch 1.27mm, IPC Medium Density)
footprint SSOP14
pins on every part: 4 VDD (power), 11 VSS (power)
part A pins: 1 OUTA (out), 2 VINA- (in), 3 VINA+ (in)
part B pins: 5 VINB+ (in), 6 VINB- (in), 7 OUTB (out)
part C pins: 8 OUTC (out), 9 VINC- (in), 10 VINC+ (in)
part D pins: 12 VIND+ (in), 13 VIND- (in), 14 OUTD (out)

## MCP6542
designator U?, comment MCP6542 dual comparator
Push-Pull Output Sub-Microamp Comparators
footprint SO-8_N
part A pins: 1 OUTA (out), 2 VINA- (in), 3 VINA+ (in), 4 VSS (power), 8 VDD (power)
part B pins: 5 VINA+ (in), 6 VINA- (in), 7 OUTA (out)

## MCP6544-I/SL
designator U?
Push-Pull Output Sub-Microamp Comparator, 14-Pin SOIC, Industrial Temperature; FirstPublished: 29-Jan-2009; DatasheetVersion: revF, Sep-2007; PackageVersion: revBB, Aug-2009; PackageReference: SOIC-SL14; Publisher: Altium Limited; PackageDescription: 14-Lead Plastic Small Outline (SL) - Narrow, 3.90mm Body [SOIC]; Supplier 1: Digi-Key; Supplier Part Number 1: MCP6544-I/SL-ND; Supplier 2: Newark; Supplier Part Number 2: 92C4258; Code_JEDEC: MS-012-AB; Code_IPC: SOIC127P600-14; ComponentLink1Description: Datasheet; ComponentLink1URL: http://ww1.microchip.com/downloads/en/DeviceDoc/21696f.pdf; ComponentLink2Description: Packaging Specification; ComponentLink2URL: http://www.microchip.com/stellent/groups/techpub_sg/documents/packagingspec/en012702.pdf; ComponentLink3Description: Microchip.com Home; ComponentLink3URL: http://www.microchip.com/
footprint SOIC14 (SOIC, 14-Leads, Body 8.6x3.9mm, Pitch 1.27mm, IPC Medium Density)
pins on every part: 4 VDD (power), 11 VSS (power)
part A pins: 1 OUTA (out), 2 VINA- (in), 3 VINA+ (in)
part B pins: 5 VINB+ (in), 6 VINB- (in), 7 OUTB (out)
part C pins: 8 OUTC (out), 9 VINC- (in), 10 VINC+ (in)
part D pins: 12 VIND+ (in), 13 VIND- (in), 14 OUTD (out)

## Micro_Switch
designator SW?  (value not drawn)
Switch; Published: 24-Mar-1999; LatestRevisionDate: 17-Jul-2002; LatestRevisionNote: Re-released for DXP Platform.; PackageReference: SPST-2; Publisher: Altium Limited
footprint Micro_Switch (Micro Switch with 2 leads used)
footprint Tact 34N-F
pins: 1, 2

## Miejsce_lutownicze
designator P?, comment Pole lutownicze  (value not drawn)
footprint Miejsce_lutownicze
pins: 1 Pole_lutownicze

## Motor
designator MOTOR?
Motor, General Kind; Published: 24-Mar-1999; LatestRevisionDate: 17-Jul-2002; LatestRevisionNote: Re-released for DXP Platform.; PackageReference: RB5-10.5; Publisher: Altium Limited
footprint Naped_LineFollower
footprint EDF27
footprint Naped_Tezeusz1 (Naped bez enkodera do Tezeusza1, dopasowac pozniej do holes w main PCB)
text: M

## NAND
designator NAND?  (value not drawn)
NAND simple symbol just for drawing
pins: 0, 1, 2

## NOR
designator NOR?  (value not drawn)
Simple NOR symbol just for drawing
pins: 1

## PB613 - Switch
designator PB613
footprint PB613-DTE
pins: 1, 2, 3, 4, 5, 6, L1, L2
text: +; -

## PB6172ML
designator PB6172ML
footprint PB6172ML
pins: 1, 2, 3, 4, L1, L2
text: +; -

## PCA9548
designator U?, comment 8CH I2C Switch  (value not drawn)
footprint TSSOP24
pins: 1 A0, 2 A1, 3 RESET, 4 SD0, 5 SC0, 6 SD1, 7 SC1, 8 SD2, 9 SC2, 10 SD3, 11 SC3, 12 GND, 13 SD4, 14 SC4, 15 SD5, 16 SC5, 17 SD6, 18 SC6, 19 SD7, 20 SC7, 21 A2, 22 SCL, 23 SDA, 24 Vcc

## Phototransistor
designator Q?  (value not drawn)
Phototransistor
footprint LED_THT (Bended version of LED\Phototransistor)
footprint LED_THT_3mm
pins: 1 E, 2 C

## Pole_lutownicze
designator *
pins: 1 Pole_lutownicze

## Potentiometer
designator POT?
footprint Pot_3296 (Bochen 3296 Pin2 - Wiper)
footprint POT SMD ACP
footprint RKT6V_SMD (SMD version of STK6V THT element)
footprint RKT6V_THT (RTK6V THT version of THT element)
pins: 1, 2, 3

## RES
designator R?, comment 100k
Resistior; Value: 100k
footprint 0805 ((2012 metric))
footprint 0603
footprint 1206 (3216(metric))
footprint 2010 (Chip Resistor; Body 5 x 2.5 mm (LxW typ))
footprint THT_AXIAL (General THT AXIAL element)
pins: 1, 2
1 alternate drawing of the same symbol

## SMT-0540-S-R
designator U?
Magnetic buzzer
footprint SMT-0540-S-R
pins: 1 +, 2 -

## SN74AHC1G125DBVR
designator I?  (value not drawn)
Single bus buffer gate with 3-state output
footprint SOT23-5_N (SOT23, 5-Leads, Body 2.9x1.6mm, Pitch 0.95mm, Lead Span 2.8mm, IPC Medium Density)
pins: 1 ~{OE}, 2 A, 3 GND, 4 Y, 5 VCC

## SN74AHC1G126DBVR
designator I?  (value not drawn)
Single bus driver gate with 3-state output
footprint SOT23-5_N (SOT23, 5-Leads, Body 2.9x1.6mm, Pitch 0.95mm, Lead Span 2.8mm, IPC Medium Density)
pins: 1 ~{OE}, 2 A, 3 GND, 4 Y, 5 VCC

## SN74LS151N
designator U?
Data selector
footprint DIP16
pins: 1 D3, 2 D2, 3 D1, 4 D0, 5 Y, 6 W, 7 ~G, 8 GND, 9 C, 10 B, 11 A, 12 D7, 13 D6, 14 D5, 15 D4, 16 Vcc

## STM32F103C8T6
designator U?
STM32 ARM-based 32-bit MCU with 64 Kbytes Flash, 48-pin LQFP, Industrial Temperature; Published: 30-May-2008; DatasheetVersion: rev6, Mar-2008; PackageVersion: Mar-2008; PackageReference: LQFP48; Publisher: Altium Limited; PackageDescription: 48-Pin Low-Profile Quad Flat Pack, 7 x 7 mm Body, 0.5 mm Pitch (LQFP48); ComponentLink1Description: Manufacturer Link; ComponentLink1URL: www.st.com/stm32; ComponentLink2Description: Datasheet; ComponentLink2URL: http://www.st.com/stonline/products/literature/ds/13587.pdf
footprint LQFP48_L (Thin QFP, 48-Leads, Body 7x7mm, Pitch 0.5mm, IPC High Density)
pins: 1 VBAT (power), 2 PC13-TAMPER-RTC (io), 3 PC14-OSC32_IN (io), 4 PC15-OSC32_OUT (io), 5 OSC_IN/PD0 (in), 6 OSC_OUT/PD1 (out), 7 NRST (io), 8 VSSA (power), 9 VDDA (power), 10 PA0-WKUP (io), 11 PA1 (io), 12 PA2 (io), 13 PA3 (io), 14 PA4 (io), 15 PA5 (io), 16 PA6 (io), 17 PA7 (io), 18 PB0 (io), 19 PB1 (io), 20 PB2/BOOT1 (io), 21 PB10 (io), 22 PB11 (io), 23 VSS_1 (power), 24 VDD_1 (power), 25 PB12 (io), 26 PB13 (io), 27 PB14 (io), 28 PB15 (io), 29 PA8 (io), 30 PA9 (io), 31 PA10 (io), 32 PA11 (io), 33 PA12 (io), 34 PA13/JTMS/SWDIO (io), 35 VSS_2 (power), 36 VDD_2 (power), 37 PA14/JTCK/SWCLK (io), 38 PA15/JTDI (io), 39 PB3/JTDO (io), 40 PB4/JNTRST (io), 41 PB5 (io), 42 PB6 (io), 43 PB7 (io), 44 BOOT0 (in), 45 PB8 (io), 46 PB9 (io), 47 VSS_3 (power), 48 VDD_3 (power)

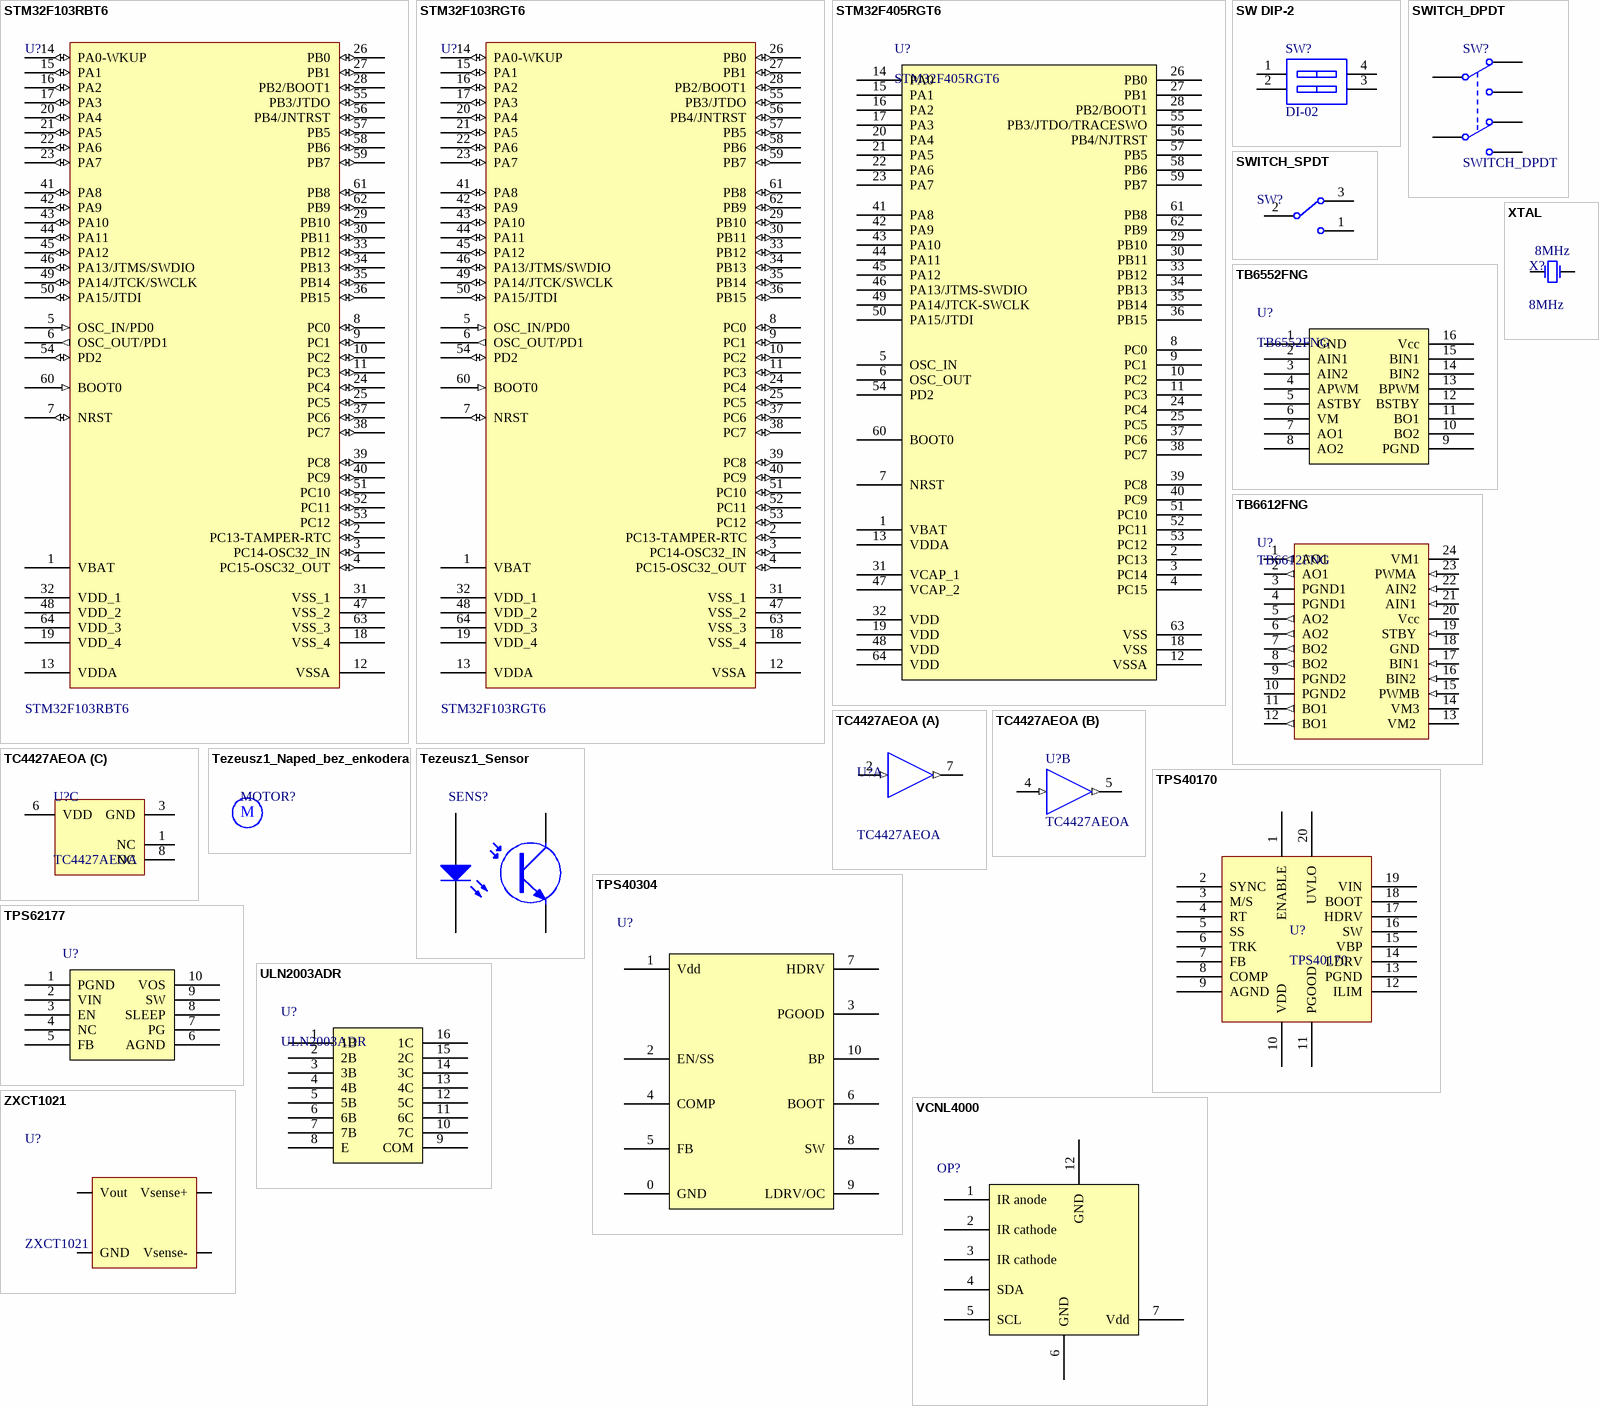
[diagram p3: symbols STM32F103RBT6 to ZXCT1021]

## STM32F103RBT6
designator U?
STM32 ARM-based 32-bit; Published: 30-May-2008; DatasheetVersion: rev6, Mar-2008; PackageVersion: Mar-2008; PackageReference: LQFP64; Publisher: Altium Limited; PackageDescription: 64-Pin Low-Profile Quad Flat Pack, 10 x 10 mm Body, 0.5 mm Pitch (LQFP64); ComponentLink1Description: Manufacturer Link; ComponentLink1URL: www.st.com/stm32; ComponentLink2Description: Datasheet; ComponentLink2URL: http://www.st.com/stonline/products/literature/ds/13587.pdf
footprint LQFP64_L (Thin QFP, 64-Leads, Body 10x10mm, Pitch 0.5mm, IPC High Density)
pins: 1 VBAT (power), 2 PC13-TAMPER-RTC (io), 3 PC14-OSC32_IN (io), 4 PC15-OSC32_OUT (io), 5 OSC_IN/PD0 (in), 6 OSC_OUT/PD1 (out), 7 NRST (io), 8 PC0 (io), 9 PC1 (io), 10 PC2 (io), 11 PC3 (io), 12 VSSA (power), 13 VDDA (power), 14 PA0-WKUP (io), 15 PA1 (io), 16 PA2 (io), 17 PA3 (io), 18 VSS_4 (power), 19 VDD_4 (power), 20 PA4 (io), 21 PA5 (io), 22 PA6 (io), 23 PA7 (io), 24 PC4 (io), 25 PC5 (io), 26 PB0 (io), 27 PB1 (io), 28 PB2/BOOT1 (io), 29 PB10 (io), 30 PB11 (io), 31 VSS_1 (power), 32 VDD_1 (power), 33 PB12 (io), 34 PB13 (io), 35 PB14 (io), 36 PB15 (io), 37 PC6 (io), 38 PC7 (io), 39 PC8 (io), 40 PC9 (io), 41 PA8 (io), 42 PA9 (io), 43 PA10 (io), 44 PA11 (io), 45 PA12 (io), 46 PA13/JTMS/SWDIO (io), 47 VSS_2 (power), 48 VDD_2 (power), 49 PA14/JTCK/SWCLK (io), 50 PA15/JTDI (io), 51 PC10 (io), 52 PC11 (io), 53 PC12 (io), 54 PD2 (io), 55 PB3/JTDO (io), 56 PB4/JNTRST (io), 57 PB5 (io), 58 PB6 (io), 59 PB7 (io), 60 BOOT0 (in), 61 PB8 (io), 62 PB9 (io), 63 VSS_3 (power), 64 VDD_3 (power)

## STM32F103RGT6
designator U?
STM32 ARM-based 32-bit; Published: 30-May-2008; DatasheetVersion: rev6, Mar-2008; PackageVersion: Mar-2008; PackageReference: LQFP64; Publisher: Altium Limited; PackageDescription: 64-Pin Low-Profile Quad Flat Pack, 10 x 10 mm Body, 0.5 mm Pitch (LQFP64); ComponentLink1Description: Manufacturer Link; ComponentLink1URL: www.st.com/stm32; ComponentLink2Description: Datasheet; ComponentLink2URL: http://www.st.com/stonline/products/literature/ds/13587.pdf
footprint LQFP64_L (Thin QFP, 64-Leads, Body 10x10mm, Pitch 0.5mm, IPC High Density)
pins: 1 VBAT (power), 2 PC13-TAMPER-RTC (io), 3 PC14-OSC32_IN (io), 4 PC15-OSC32_OUT (io), 5 OSC_IN/PD0 (in), 6 OSC_OUT/PD1 (out), 7 NRST (io), 8 PC0 (io), 9 PC1 (io), 10 PC2 (io), 11 PC3 (io), 12 VSSA (power), 13 VDDA (power), 14 PA0-WKUP (io), 15 PA1 (io), 16 PA2 (io), 17 PA3 (io), 18 VSS_4 (power), 19 VDD_4 (power), 20 PA4 (io), 21 PA5 (io), 22 PA6 (io), 23 PA7 (io), 24 PC4 (io), 25 PC5 (io), 26 PB0 (io), 27 PB1 (io), 28 PB2/BOOT1 (io), 29 PB10 (io), 30 PB11 (io), 31 VSS_1 (power), 32 VDD_1 (power), 33 PB12 (io), 34 PB13 (io), 35 PB14 (io), 36 PB15 (io), 37 PC6 (io), 38 PC7 (io), 39 PC8 (io), 40 PC9 (io), 41 PA8 (io), 42 PA9 (io), 43 PA10 (io), 44 PA11 (io), 45 PA12 (io), 46 PA13/JTMS/SWDIO (io), 47 VSS_2 (power), 48 VDD_2 (power), 49 PA14/JTCK/SWCLK (io), 50 PA15/JTDI (io), 51 PC10 (io), 52 PC11 (io), 53 PC12 (io), 54 PD2 (io), 55 PB3/JTDO (io), 56 PB4/JNTRST (io), 57 PB5 (io), 58 PB6 (io), 59 PB7 (io), 60 BOOT0 (in), 61 PB8 (io), 62 PB9 (io), 63 VSS_3 (power), 64 VDD_3 (power)

## STM32F405RGT6
designator U?
STM32 ARM-based 32-bit
footprint LQFP64_L (Thin QFP, 64-Leads, Body 10x10mm, Pitch 0.5mm, IPC High Density)
pins: 1 VBAT, 2 PC13, 3 PC14, 4 PC15, 5 OSC_IN, 6 OSC_OUT, 7 NRST, 8 PC0, 9 PC1, 10 PC2, 11 PC3, 12 VSSA, 13 VDDA, 14 PA0, 15 PA1, 16 PA2, 17 PA3, 18 VSS, 19 VDD, 20 PA4, 21 PA5, 22 PA6, 23 PA7, 24 PC4, 25 PC5, 26 PB0, 27 PB1, 28 PB2/BOOT1, 29 PB10, 30 PB11, 31 VCAP_1, 32 VDD, 33 PB12, 34 PB13, 35 PB14, 36 PB15, 37 PC6, 38 PC7, 39 PC8, 40 PC9, 41 PA8, 42 PA9, 43 PA10, 44 PA11, 45 PA12, 46 PA13/JTMS-SWDIO, 47 VCAP_2, 48 VDD, 49 PA14/JTCK-SWCLK, 50 PA15/JTDI, 51 PC10, 52 PC11, 53 PC12, 54 PD2, 55 PB3/JTDO/TRACESWO, 56 PB4/NJTRST, 57 PB5, 58 PB6, 59 PB7, 60 BOOT0, 61 PB8, 62 PB9, 63 VSS, 64 VDD

## SW DIP-2
designator SW?, comment DI-02
DIP Switch, 2 Position, SPST; Published: 24-Mar-1999; LatestRevisionDate: 17-Jul-2002; LatestRevisionNote: Re-released for DXP Platform.; PackageReference: DIP-4; Publisher: Altium Limited
footprint DI-02 (DIP Switch, 2 Position, Package)
pins: 1 A1, 2 A2, 3 B2, 4 B1

## SWITCH_DPDT
designator SW?
Double pole, double throw; Published: 24-Mar-1999; LatestRevisionDate: 29-May-2009; LatestRevisionNote: IPC-7351 Footprint Added.; PackageVersion: Mar-2001; PackageReference: SOT23-6; Publisher: Altium Limited; PackageDescription: 6-Pin SOT-23 Package 0.95 mm Pitch, 2.7 mm Lead Span; Code_JEITA: SC-74; Code_IPC: SOT26A-6
footprint DPDT (Double pole, double throw)
pins: 1 COMMON1, 2 NC1, 3 NO1, 4 NC2, 5 COMMON2, 6 NO2

## SWITCH_SPDT
designator SW?  (value not drawn)
Single pole, double throw
footprint SP3T (SP3T ON-OFF-ON switch)
footprint ESP1010 (ON - ON Switch tht vertical)
footprint ESP2010 (ON - ON Switch tht)
pins: 1, 2, 3

## TB6552FNG
designator U?
Dual-bridge driver for DC motors
footprint SSOP16
pins: 1 GND, 2 AIN1, 3 AIN2, 4 APWM, 5 ASTBY, 6 VM, 7 AO1, 8 AO2, 9 PGND, 10 BO2, 11 BO1, 12 BSTBY, 13 BPWM, 14 BIN2, 15 BIN1, 16 Vcc

## TB6612FNG
designator U?
Driver IC for Dual DC motor
footprint SSOP24-P-300 (SSOP, 24-Leads, Body 8,3x5,8mm (max), Pitch 0,65mm, IPC Medium Density)
pins: 1 AO1 (out) "chA output1", 2 AO1 (out) "chA output1", 3 PGND1  "Power GND 1", 4 PGND1  "Power GND 1", 5 AO2  (out) "chA output2", 6 AO2  (out) "chA output2", 7 BO2  (out) "chB output2", 8 BO2  (out) "chB output2", 9 PGND2 "Power GND 2", 10 PGND2 "Power GND 2", 11 BO1 (out) "chB output1", 12 BO1 (out) "chB output1", 13 VM2  (power) "Motor supply(2.5V~13.5V)", 14 VM3 (power) "Motor supply(2.5V~13.5V)", 15 PWMB (in) "chB PWM input    /    200kOhm  pull-down at internal", 16  BIN2  (in) "chB input2    /    200k?  pull-down at internal", 17  BIN1 (in) "chB input    /    200k?  pull-down at internal", 18 GND "Small signal GND", 19 STBY  (in) "“L”=standby / 200k?  pull-down at internal", 20 Vcc "Small signal supply (2.7V~5.5V)", 21  AIN1  (in) "chA input1    /    200k?  pull-down at internal", 22  AIN2  (in) "chA input2    /    200k?  pull-down at internal", 23 PWMA  (in) "chA PWM input    /    200k?  pull-down at internal", 24 VM1 (power) "Motor supply(2.5V~13.5V)"

## TC4427AEOA
designator U?
1.5A Dual High-Speed Power MOSFET Driver, Non-Inverting, Industrial Temperature; FirstPublished: 29-Jan-2009; DatasheetVersion: revF, Jan-2006; PackageVersion: revBB, Aug-2009; PackageReference: SOIC-OA8; Publisher: Altium Limited; PackageDescription: 8-Lead Plastic Small Outline (OA) - Narrow, 3.90mm Body [SOIC]; Supplier 1: Digi-Key; Supplier Part Number 1: TC4427AEOA-ND; Supplier 2: Farnell; Supplier Part Number 2: 1292285; Supplier 3: Newark; Supplier Part Number 3: 96K4020; Code_IPC: SOIC127P600-8; ComponentLink1Description: Datasheet; ComponentLink1URL: http://ww1.microchip.com/downloads/en/DeviceDoc/21423F.pdf; ComponentLink2Description: Packaging Specification; ComponentLink2URL: http://www.microchip.com/stellent/groups/techpub_sg/documents/packagingspec/en012702.pdf; ComponentLink3Description: Microchip.com Home; ComponentLink3URL: http://www.microchip.com/
footprint SO-8_N
part A pins: 2 INA (in), 7 OUTA (out)
part B pins: 4 INB (in), 5 OUTB (out)
part C pins: 1 NC, 3 GND (power), 6 VDD (power), 8 NC

## Tezeusz1_Naped_bez_enkodera
designator MOTOR?, comment Tezeusz1_Naped  (value not drawn)
3D view of Tezeusz1 motor
footprint Naped_Tezeusz1 (Naped bez enkodera do Tezeusza1, dopasowac pozniej do holes w main PCB)
text: M

## Tezeusz1_Sensor
designator SENS?  (value not drawn)
Sensor for Tezeusz1
footprint Sensor_Tezeusz1D (Para fotodioda i fototranzystor dla Tezeusza1)
pins: FA, FK, PE, PK

## TPS40170
designator U?
4.5-V TO 60-V WIDE-INPUT SYNCHRONOUS PWM BUCK CONTROLLER
footprint R-PVQFN-N20
pins: 1 ENABLE, 2 SYNC, 3 M/S, 4 RT, 5 SS, 6 TRK, 7 FB, 8 COMP, 9 AGND, 10 VDD, 11 PGOOD, 12 ILIM, 13 PGND, 14 LDRV, 15 VBP, 16 SW, 17 HDRV, 18 BOOT, 19 VIN, 20 UVLO

## TPS40304
designator U?  (value not drawn)
3V to 20V input synchronus buck controller
footprint SON 10-Pin
pins: 0 GND, 1 Vdd, 2 EN/SS, 3 PGOOD, 4 COMP, 5 FB, 6 BOOT, 7 HDRV, 8 SW, 9 LDRV/OC, 10 BP

## TPS62177
designator U?  (value not drawn)
28V, 0.5A Step-Down Converter with Sleep Mode
footprint DQC 10 Pin
pins: 1 PGND, 2 VIN, 3 EN, 4 NC, 5 FB, 6 AGND, 7 PG, 8 SLEEP, 9 SW, 10 VOS

## ULN2003ADR
designator U?
HIGH-VOLTAGE, HIGH-CURRENT DARLINGTON TRANSISTOR ARRAYS
footprint SO16
pins: 1 1B, 2 2B, 3 3B, 4 4B, 5 5B, 6 6B, 7 7B, 8 E, 9 COM, 10 7C, 11 6C, 12 5C, 13 4C, 14 3C, 15 2C, 16 1C

## VCNL4000
designator OP?  (value not drawn)
Proximity sensor up to 200mm
footprint VCNL4000
pins: 1 IR anode, 2 IR cathode, 3 IR cathode, 4 SDA, 5 SCL, 6 GND, 7 Vdd, 12 GND

## XTAL
designator X?, comment 8MHz
Oscillator; Unit Price1: *; Unit Price2: *; Value: 8MHz
footprint HC49/4H_SMX (Quartz Crystal, SM; Body 13.4 (inc. leads) x 4.9 mm (LxW max))
footprint HC49-4H_THT (HC49-4H package for oscillator)
pins: 1 OSC1, 2 OSC2

## ZXCT1021
designator U?
Low offset high-side current monitor
footprint SOT23-5_N (SOT23, 5-Leads, Body 2.9x1.6mm, Pitch 0.95mm, Lead Span 2.8mm, IPC Medium Density)
pins: 1 Flag hidden, 2 GND, 3 Vout, 4 Vsense+, 5 Vsense-